# Altium integrated library LM555CM1.IntLib: 1 symbol
Pins are listed as number, name and electrical type; pins without a type are passive.

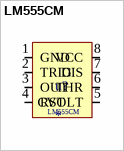
[diagram p0: symbol LM555CM]

## LM555CM
designator u?
LM555CM IC; Created By: Cyrine SFAR; Date created: 23-01-2019
footprint LM555CM (LM555CM IC)
pins: 1 GND, 2 TRIG, 3 OUT, 4 RST, 5 CVOLT, 6 THR, 7 DIS, 8 VCC